# Altium schematic symbol library QUTMS_RadioLibrary.SchLib: 33 symbols
Pins are listed as number, name and electrical type; pins without a type are passive.

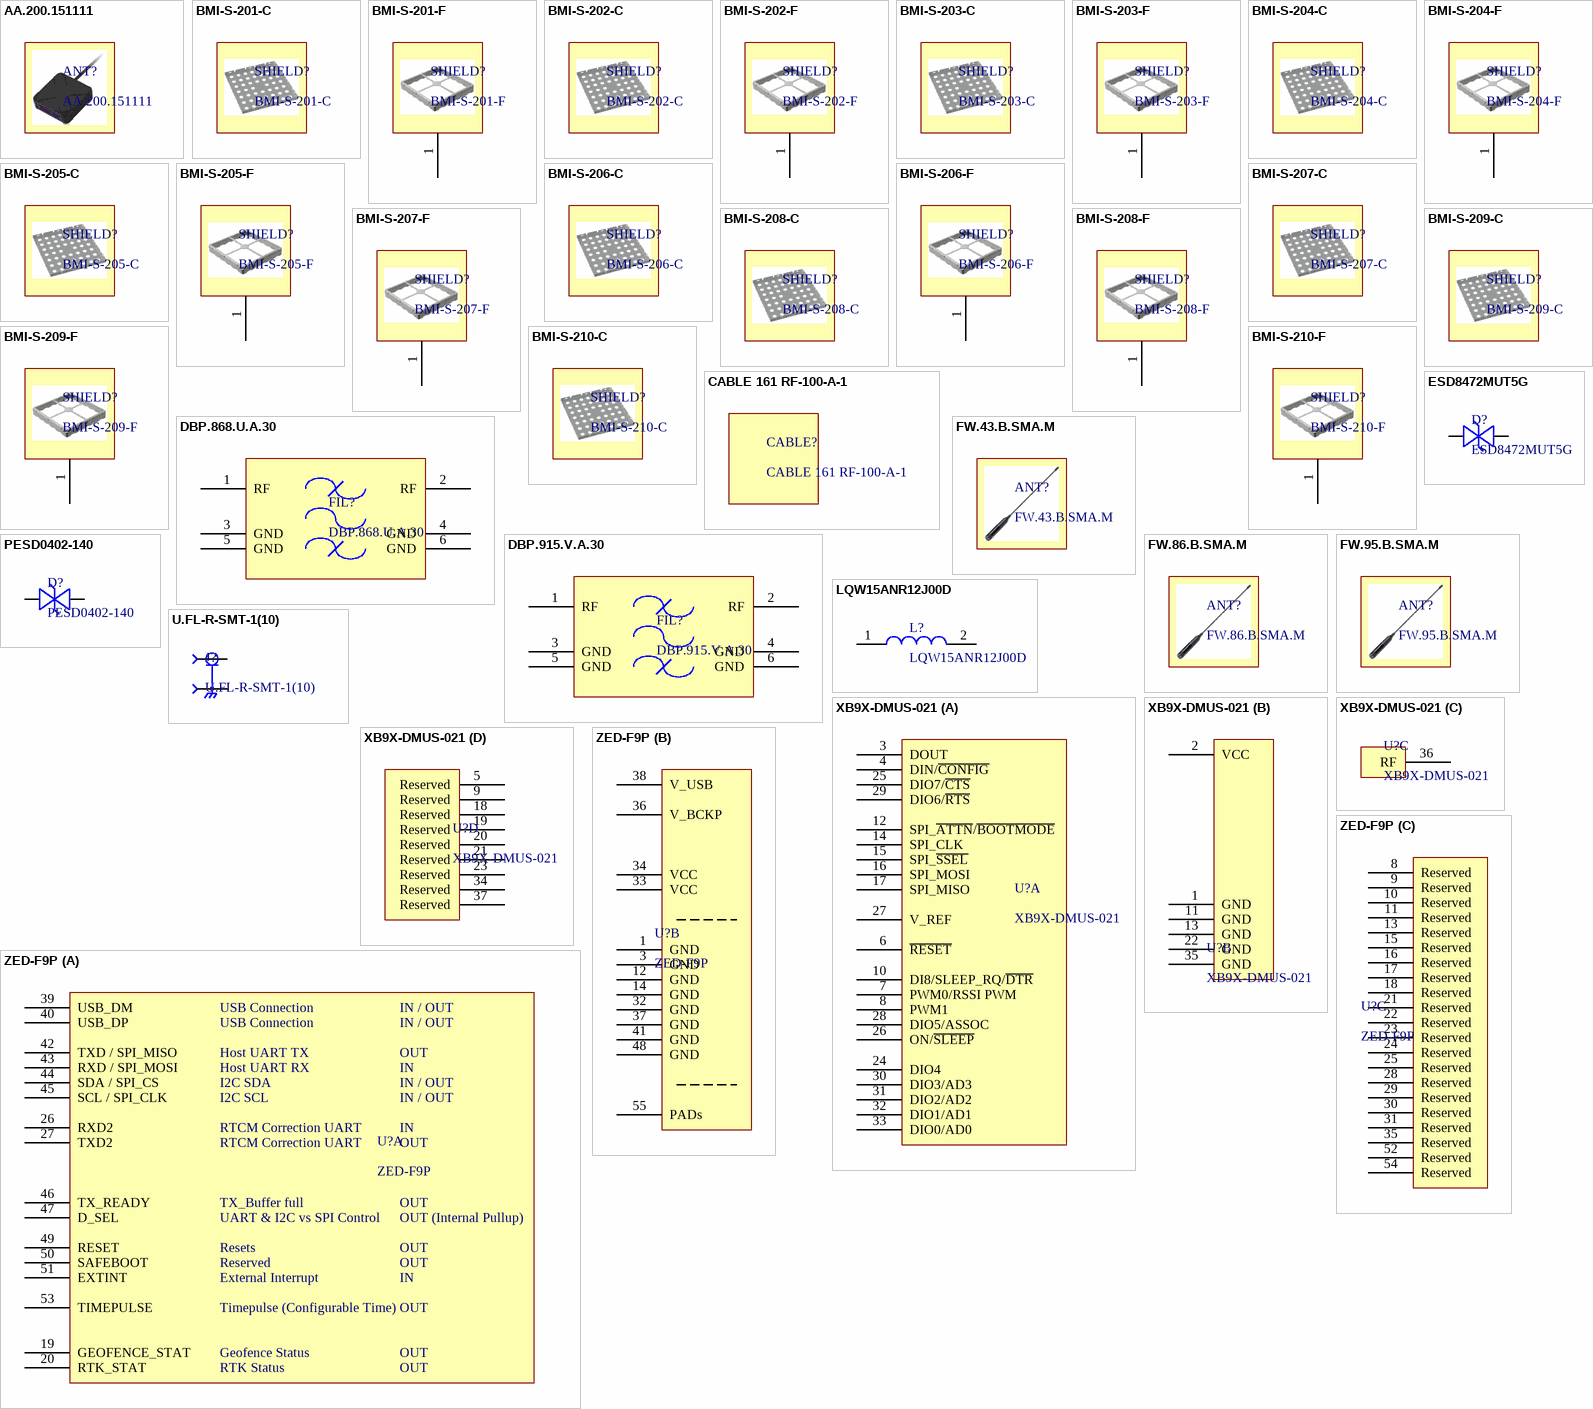
[diagram p0: symbols AA.200.151111 to ZED-F9P]

## AA.200.151111
designator ANT?
Antennas GNSS L1/L2/L5 External 1500mm RG-174 SMA(M) ST

## BMI-S-201-C
designator SHIELD?
RF Shield Cover 1.344" (34.14mm) X 1.468" (37.29mm) Vent Holes in Pattern Snap Fit

## BMI-S-201-F
designator SHIELD?
RF Shield Frame 0.500" (12.70mm) X 0.538" (13.66mm) Solder
footprint BMI-S-201-F
pins: 1

## BMI-S-202-C
designator SHIELD?
RF Shield Cover 1.344" (34.14mm) X 1.468" (37.29mm) Vent Holes in Pattern Snap Fit

## BMI-S-202-F
designator SHIELD?
RF Shield Frame 0.650" (16.50mm) X 0.650" (16.50mm) Solder
footprint BMI-S-202-F
pins: 1

## BMI-S-203-C
designator SHIELD?
RF Shield Cover 1.344" (34.14mm) X 1.468" (37.29mm) Vent Holes in Pattern Snap Fit

## BMI-S-203-F
designator SHIELD?
RF Shield Frame 1.032" (26.21mm) X 1.032" (26.21mm) Solder
footprint BMI-S-203-F
pins: 1

## BMI-S-204-C
designator SHIELD?
RF Shield Cover 1.344" (34.14mm) X 1.468" (37.29mm) Vent Holes in Pattern Snap Fit

## BMI-S-204-F
designator SHIELD?
RF Shield Frame 1.260" (32.00mm) X 1.260" (32.00mm) Solder
footprint BMI-S-204-F
pins: 1

## BMI-S-205-C
designator SHIELD?
RF Shield Cover 1.344" (34.14mm) X 1.468" (37.29mm) Vent Holes in Pattern Snap Fit

## BMI-S-205-F
designator SHIELD?
RF Shield Frame 1.000" (25.40mm) X 1.500" (38.10mm) Solder
footprint BMI-S-205-F
pins: 1

## BMI-S-206-C
designator SHIELD?
RF Shield Cover 1.344" (34.14mm) X 1.468" (37.29mm) Vent Holes in Pattern Snap Fit

## BMI-S-206-F
designator SHIELD?
RF Shield Frame 1.326" (33.68mm) X 1.450" (36.83mm) Solder
footprint BMI-S-206-F
pins: 1

## BMI-S-207-C
designator SHIELD?
RF Shield Cover 1.344" (34.14mm) X 1.468" (37.29mm) Vent Holes in Pattern Snap Fit

## BMI-S-207-F
designator SHIELD?
RF Shield Frame 1.747" (44.37mm) X 1.747" (44.37mm) Solder
footprint BMI-S-207-F
pins: 1

## BMI-S-208-C
designator SHIELD?
RF Shield Cover 1.344" (34.14mm) X 1.468" (37.29mm) Vent Holes in Pattern Snap Fit

## BMI-S-208-F
designator SHIELD?
RF Shield Frame 1.559" (39.60mm) X 1.559" (39.60mm) Solder
footprint BMI-S-208-F
pins: 1

## BMI-S-209-C
designator SHIELD?
RF Shield Cover 1.344" (34.14mm) X 1.468" (37.29mm) Vent Holes in Pattern Snap Fit

## BMI-S-209-F
designator SHIELD?
RF Shield Frame 0.728" (18.50mm) X 1.156" (29.36mm) Solder
footprint BMI-S-209-F
pins: 1

## BMI-S-210-C
designator SHIELD?
RF Shield Cover 1.344" (34.14mm) X 1.468" (37.29mm) Vent Holes in Pattern Snap Fit

## BMI-S-210-F
designator SHIELD?
RF Shield Frame 1.201" (30.50mm) X 1.732" (44.00mm) Solder
footprint BMI-S-210-F
pins: 1

## CABLE 161 RF-100-A-1
designator CABLE?
Cable Assembly Coaxial U.FL (UMCC), IPEX MHF1 to SMA Female to Female RG-178 3.937" (100.00mm)

## DBP.868.U.A.30
designator FIL?
868MHz Frequency Band Pass RF Filter (Radio Frequency) 4MHz Bandwidth 3dB 2-SMD, No Lead
footprint TAOGLAS 868MHZ FILTER
pins: 1 RF, 2 RF, 3 GND, 4 GND, 5 GND, 6 GND

## DBP.915.V.A.30
designator FIL?
915MHz Frequency Band Pass RF Filter (Radio Frequency) 5MHz Bandwidth 3.2dB 2-SMD, No Lead
footprint TAOGLAS 915MHZ FILTER
pins: 1 RF, 2 RF, 3 GND, 4 GND, 5 GND, 6 GND

## ESD8472MUT5G
designator D?
14V Clamp 3A (8/20µs) Ipp Tvs Diode Surface Mount 2-X3DFN (0.62x0.32)
footprint 2-X3DFN
pins: A Anode, K Cathode

## FW.43.B.SMA.M
designator ANT?
433MHz ISM Whip, Straight RF Antenna 0.4dB SMA Male Connector Mount

## FW.86.B.SMA.M
designator ANT?
868MHz ISM Whip, Straight RF Antenna 2.8dBi SMA Male Connector Mount

## FW.95.B.SMA.M
designator ANT?
915MHz ISM Whip, Straight RF Antenna 2.7dBi SMA Male Connector Mount

## LQW15ANR12J00D
designator L?
120nH Unshielded Wirewound Inductor 110mA 2.66Ohm Max 0402 (1005 Metric)
footprint FERRITEBEAD_0402
pins: 1, 2

## PESD0402-140
designator D?
40V Clamp Ipp Tvs Diode Surface Mount 0402
footprint FERRITEBEAD_0402
pins: 1 Anode, 2 Cathode

## U.FL-R-SMT-1(10)
designator J?
U.FL (UMCC) Connector Receptacle, Male Pin 50Ohm Surface Mount Solder,  H11891CT-ND
footprint U.FL-R-SMT HIROSE
pins: 1 SIG, 2 GND

## XB9X-DMUS-021
designator U?
General ISM < 1GHz Transceiver Module 902MHz ~ 928MHz Antenna Not Included, U.FL Surface Mount
footprint XBee_1W_Base
part A pins: 3 DOUT, 4 DIN/~{CONFIG}, 6 ~{RESET}, 7 PWM0/RSSI PWM, 8 PWM1, 10 DI8/SLEEP_RQ/~{DTR}, 12 SPI_~{ATTN}/~{BOOTMODE}, 14 SPI_CLK, 15 SPI_~{SSEL}, 16 SPI_MOSI, 17 SPI_MISO, 24 DIO4, 25 DIO7/~{CTS}, 26 ON/~{SLEEP}, 27 V_REF, 28 DIO5/ASSOC, 29 DIO6/~{RTS}, 30 DIO3/AD3, 31 DIO2/AD2, 32 DIO1/AD1, 33 DIO0/AD0
part B pins: 1 GND, 2 VCC, 11 GND, 13 GND, 22 GND, 35 GND
part C pins: 36 RF
part D pins: 5 Reserved, 9 Reserved, 18 Reserved, 19 Reserved, 20 Reserved, 21 Reserved, 23 Reserved, 34 Reserved, 37 Reserved

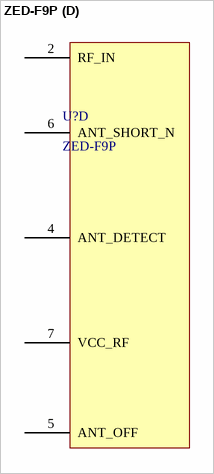
[diagram p1: symbol ZED-F9P]

## ZED-F9P
designator U?
footprint uBlox_ZED-F9P
part A pins: 19 GEOFENCE_STAT, 20 RTK_STAT, 26 RXD2, 27 TXD2, 39 USB_DM, 40 USB_DP, 42 TXD / SPI_MISO, 43 RXD / SPI_MOSI, 44 SDA / SPI_CS, 45 SCL / SPI_CLK, 46 TX_READY, 47 D_SEL, 49 RESET, 50 SAFEBOOT, 51 EXTINT, 53 TIMEPULSE
part B pins: 1 GND, 3 GND, 12 GND, 14 GND, 32 GND, 33 VCC, 34 VCC, 36 V_BCKP, 37 GND, 38 V_USB, 41 GND, 48 GND, 55 PADs
part C pins: 8 Reserved, 9 Reserved, 10 Reserved, 11 Reserved, 13 Reserved, 15 Reserved, 16 Reserved, 17 Reserved, 18 Reserved, 21 Reserved, 22 Reserved, 23 Reserved, 24 Reserved, 25 Reserved, 28 Reserved, 29 Reserved, 30 Reserved, 31 Reserved, 35 Reserved, 52 Reserved, 54 Reserved
part D pins: 2 RF_IN, 4 ANT_DETECT, 5 ANT_OFF, 6 ANT_SHORT_N, 7 VCC_RF
part A text: USB Connection; IN / OUT; Host UART TX; OUT; Host UART RX; IN; I2C SDA; I2C SCL; RTCM Correction UART; TX_Buffer full; UART & I2C vs SPI Control; OUT (Internal Pullup); Resets; External Interrupt; Timepulse (Configurable Time); Geofence Status; RTK Status